# EAGLE library part EDGE30 (library bus)
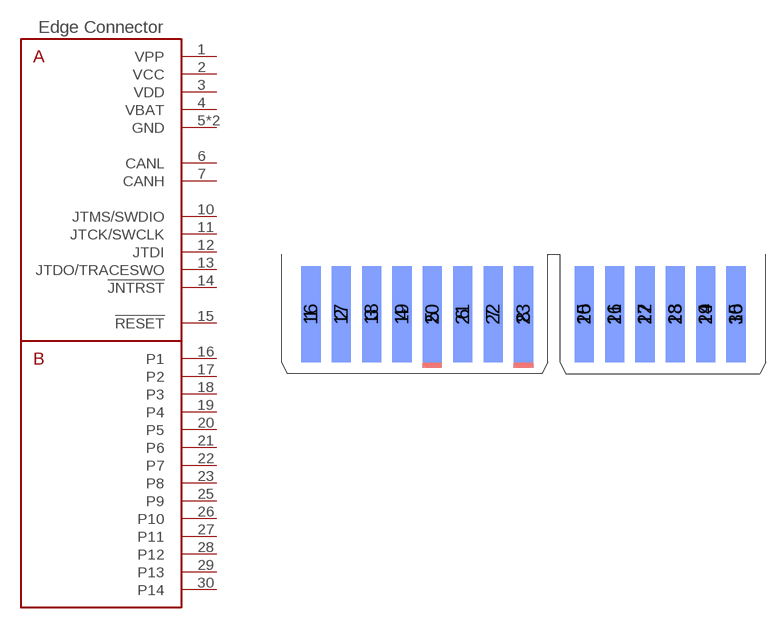
[diagram p0: symbol with the pads of EDGE30; footprint EDGE30]

Designator prefix -

## EDGE30  [EDGE30]
1  VPP  pwr
2  VCC  pwr
3  VDD  pwr
4  VBAT  pwr
5  GND  pwr
6  CANL
7  CANH
8  GND  pwr
10  JTMS/SWDIO
11  JTCK/SWCLK
12  JTDI
13  JTDO/TRACESWO
14  !JNTRST!
15  !RESET!
16  P1
17  P2
18  P3
19  P4
20  P5
21  P6
22  P7
23  P8
25  P9
26  P10
27  P11
28  P12
29  P13
30  P14

## Footprint EDGE30 (pad centres in mm)
smd 1.6 x 8: 1 -17.78,-5; 2 -15.24,-5; 3 -12.7,-5; 4 -10.16,-5; 6 -5.08,-5; 7 -2.54,-5; 10 5.08,-5; 11 7.62,-5; 12 10.16,-5; 13 12.7,-5; 14 15.24,-5; 15 17.78,-5
smd 1.6 x 8.5: 5 -7.62,-5.25; 8 0,-5.25
smd 1.6 x 8 bottom: 16 -17.78,-5; 17 -15.24,-5; 18 -12.7,-5; 19 -10.16,-5; 20 -7.62,-5; 21 -5.08,-5; 22 -2.54,-5; 23 0,-5; 25 5.08,-5; 26 7.62,-5; 27 10.16,-5; 28 12.7,-5; 29 15.24,-5; 30 17.78,-5